# Altium footprint library DO-214AC.PcbLib: 1 footprints
Each footprint in its own frame and in the unit in brackets; x right, y up, seen from the top. Pads: shape width x height; smd on the part's side, far side on the other; paste and mask are expansions set on the pad; w line width, h text height; cw(c..) or ccw(c..) is an arc to the next point about the centre after c.
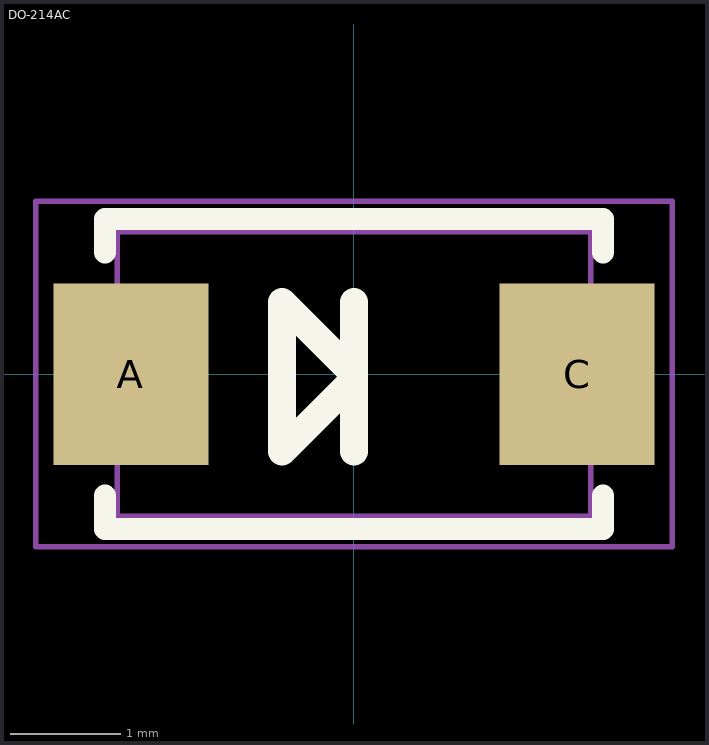
[diagram p0: the footprint, top view; thin cyan lines are the x and y axes]

## DO-214AC [mm]
pads (2):
  rect 1.4x1.64 smd: A(-2.015,0) C(2.015,0)
Top Overlay:
  lines w0.2: -2.25,-1.1 -2.25,-1.4 2.25,-1.4 2.25,-1.1 ; -2.25,1.1 -2.25,1.4 2.25,1.4 2.25,1.1
  lines w0.254: -0.004,-0.05 0,-0.05 -0.65,-0.7 -0.65,0.65 0,0 ; 0,-0.7 0,0.65
Mechanical 13:
  lines w0.05: -2.138,-1.288 2.138,-1.288 2.138,1.288 -2.138,1.288 -2.138,-1.288
Mechanical 15:
  lines w0.05: -2.875,-1.563 2.875,-1.563 2.875,1.563 -2.875,1.563 -2.875,-1.563
3D body "DIOM4326X23N.step": height 2.3, standoff 0, extent -2.36,-1.29 2.36,1.29